# Altium footprint library th_cap.PcbLib: 1 footprints
Each footprint in its own frame and in the unit in brackets; x right, y up, seen from the top. Pads: shape width x height; smd on the part's side, far side on the other; paste and mask are expansions set on the pad; w line width, h text height; cw(c..) or ccw(c..) is an arc to the next point about the centre after c.
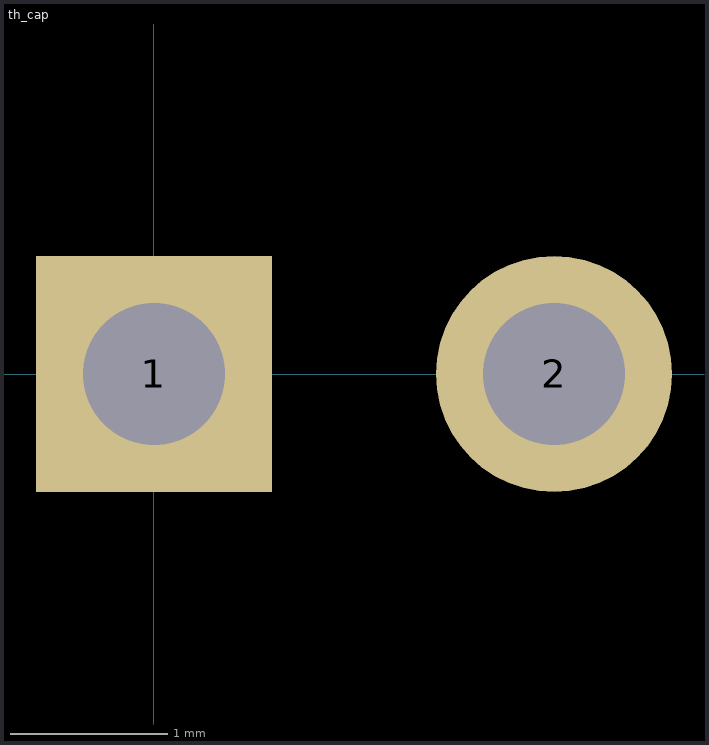
[diagram p0: the footprint, top view; thin cyan lines are the x and y axes]

## th_cap [mm] "Connector; Header; 2 Position"
height 8.255
pads (2):
  rect 1.5x1.5 hole 0.9: 1(0,0)
  round 1.5 hole 0.9: 2(2.54,0)
3D body "C-5-146850-1.STEP": height 8.46, standoff -2.72, extent 1.27,-1.194 3.81,1.194
3D body "C-5-146850-1.STEP": height 8.46, standoff -2.72, extent -1.27,-1.194 1.27,1.194